# Altium schematic symbol library Rising Clamp System WR-TBL_3.50 mm.SchLib: 34 symbols
Pins are listed as number, name and electrical type; pins without a type are passive.

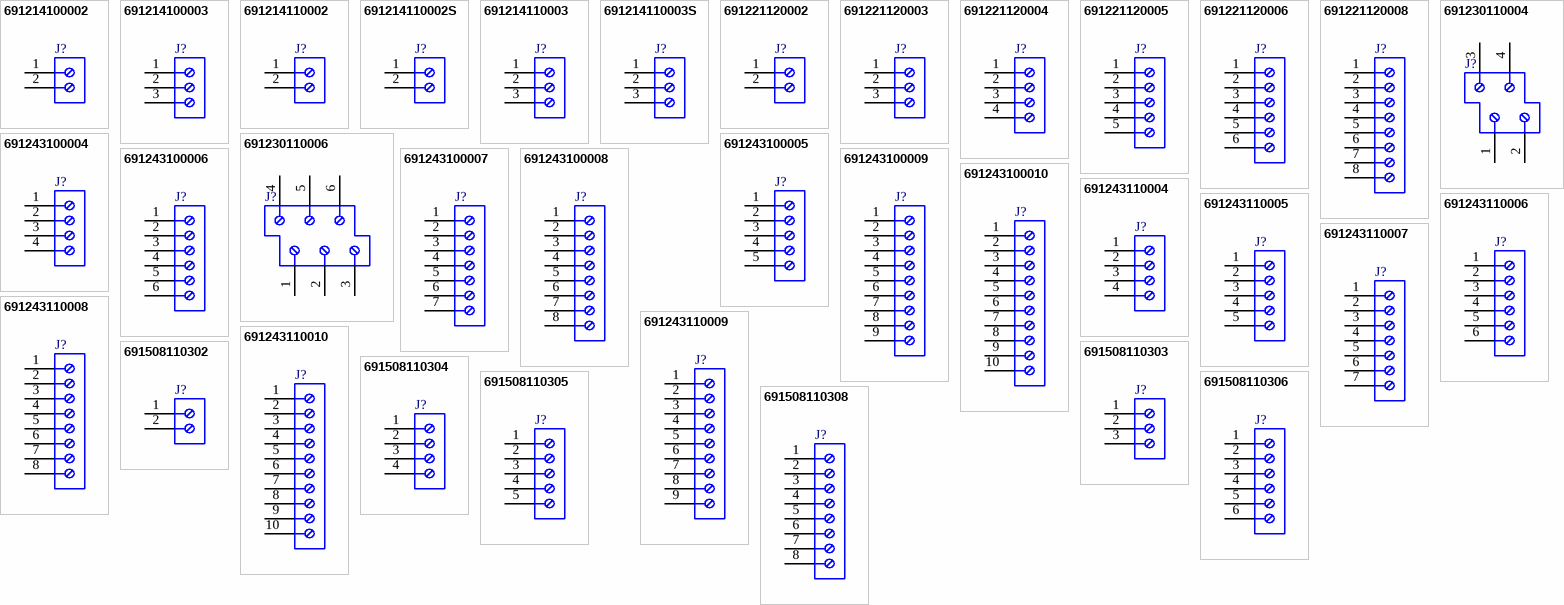
[diagram p0: symbols 691214100002 to 691508110308]

## 691214100002
designator J?
Serie 2141 - 3.50 mm Vertical Entry Modular with Rising Cage Clamp WR-TBL, 2 pin; Part Number: 691214100002; Pin Number: 2; Pitch: 3.50 mm; ComponentLink1Description: Manufacturer; ComponentLink1URL: http://www.we-online.de; ComponentLink2Description: Datasheet; ComponentLink2URL: http://katalog.we-online.de/em/datasheet/6912141000xx.pdf; Published Date: June 2018; Publisher: Wurth Elektronik; Operating Temperature: -30 to 120 degC; Mounting Technology: THT; Packaging: Box
footprint 691214100002
pins: 1, 2

## 691214100003
designator J?
Serie 2141 - 3.50 mm Vertical Entry Modular with Rising Cage Clamp WR-TBL, 3 pin; Part Number: 691214100003; Pin Number: 3; Pitch: 3.50 mm; ComponentLink1Description: Manufacturer; ComponentLink1URL: http://www.we-online.de; ComponentLink2Description: Datasheet; ComponentLink2URL: http://katalog.we-online.de/em/datasheet/6912141000xx.pdf; Published Date: June 2018; Publisher: Wurth Elektronik; Operating Temperature: -30 to 120 degC; Mounting Technology: THT; Packaging: Box
footprint 691214100003
pins: 1, 2, 3

## 691214110002
designator J?
Serie 2141 - 3.50 mm Horizontal Entry Modular with Rising Cage Clamp WR-TBL, 2 pin; Part Number: 691214110002; Pin Number: 2; Pitch: 3.50 mm; ComponentLink1Description: Manufacturer; ComponentLink1URL: http://www.we-online.de; ComponentLink2Description: Datasheet; ComponentLink2URL: http://katalog.we-online.de/em/datasheet/6912141100xx.pdf; Published Date: June 2018; Publisher: Wurth Elektronik; Operating Temperature: -40 to 105 degC; Mounting Technology: THT; Packaging: Box
footprint 691214110002
pins: 1, 2

## 691214110002S
designator J?
Serie 2141S - 3.50 mm Horizontal Entry Modular with Rising Cage Clamp WR-TBL, 2 pin; Part Number: 691214110002S; Pin Number: 2; Pitch: 3.50 mm; ComponentLink1Description: Manufacturer; ComponentLink1URL: http://www.we-online.de; ComponentLink2Description: Datasheet; ComponentLink2URL: http://katalog.we-online.de/em/datasheet/6912141100XXS.pdf; Published Date: June 2018; Publisher: Wurth Elektronik; Operating Temperature: -30 to 120 degC; Mounting Technology: THT; Packaging: Box
footprint 691214110002S
pins: 1, 2

## 691214110003
designator J?
Serie 2141 - 3.50 mm Horizontal Entry Modular with Rising Cage Clamp WR-TBL, 3 pin; Part Number: 691214110003; Pin Number: 3; Pitch: 3.50 mm; ComponentLink1Description: Manufacturer; ComponentLink1URL: http://www.we-online.de; ComponentLink2Description: Datasheet; ComponentLink2URL: http://katalog.we-online.de/em/datasheet/6912141100xx.pdf; Published Date: June 2018; Publisher: Wurth Elektronik; Operating Temperature: -40 to 105 degC; Mounting Technology: THT; Packaging: Box
footprint 691214110003
pins: 1, 2, 3

## 691214110003S
designator J?
Serie 2141S - 3.50 mm Horizontal Entry Modular with Rising Cage Clamp WR-TBL, 3 pin; Part Number: 691214110003S; Pin Number: 3; Pitch: 3.50 mm; ComponentLink1Description: Manufacturer; ComponentLink1URL: http://www.we-online.de; ComponentLink2Description: Datasheet; ComponentLink2URL: http://katalog.we-online.de/em/datasheet/6912141100XXS.pdf; Published Date: June 2018; Publisher: Wurth Elektronik; Operating Temperature: -30 to 120 degC; Mounting Technology: THT; Packaging: Box
footprint 691214110003S
pins: 1, 2, 3

## 691221120002
designator J?
Serie 2211 - 3.50 mm 55deg Entry with Rising Cage Clamp WR-TBL, 2 pin; Part Number: 691221120002; Pin Number: 2; Pitch: 3.50 mm; ComponentLink1Description: Manufacturer; ComponentLink1URL: http://www.we-online.de; ComponentLink2Description: Datasheet; ComponentLink2URL: http://katalog.we-online.de/em/datasheet/691221120002.pdf; Published Date: June 2018; Publisher: Wurth Elektronik; Operating Temperature: -40 to 105 degC; Mounting Technology: THT; Packaging: Box
footprint 691221120002
pins: 1, 2

## 691221120003
designator J?
Serie 2211 - 3.50 mm 55deg Entry with Rising Cage Clamp WR-TBL, 3 pin; Part Number: 691221120003; Pin Number: 3; Pitch: 3.50 mm; ComponentLink1Description: Manufacturer; ComponentLink1URL: http://www.we-online.de; ComponentLink2Description: Datasheet; ComponentLink2URL: http://katalog.we-online.de/em/datasheet/691221120003.pdf; Published Date: June 2018; Publisher: Wurth Elektronik; Operating Temperature: -40 to 105 degC; Mounting Technology: THT; Packaging: Box
footprint 691221120003
pins: 1, 2, 3

## 691221120004
designator J?
Serie 2211 - 3.50 mm 55deg Entry with Rising Cage Clamp WR-TBL, 4 pin; Part Number: 691221120004; Pin Number: 4; Pitch: 3.50 mm; ComponentLink1Description: Manufacturer; ComponentLink1URL: http://www.we-online.de; ComponentLink2Description: Datasheet; ComponentLink2URL: http://katalog.we-online.de/em/datasheet/691221120004.pdf; Published Date: June 2018; Publisher: Wurth Elektronik; Operating Temperature: -40 to 105 degC; Mounting Technology: THT; Packaging: Box
footprint 691221120004
pins: 1, 2, 3, 4

## 691221120005
designator J?
Serie 2211 - 3.50 mm 55deg Entry with Rising Cage Clamp WR-TBL, 5 pin; Part Number: 691221120005; Pin Number: 5; Pitch: 3.50 mm; ComponentLink1Description: Manufacturer; ComponentLink1URL: http://www.we-online.de; ComponentLink2Description: Datasheet; ComponentLink2URL: http://katalog.we-online.de/em/datasheet/691221120005.pdf; Published Date: June 2018; Publisher: Wurth Elektronik; Operating Temperature: -40 to 105 degC; Mounting Technology: THT; Packaging: Box
footprint 691221120005
pins: 1, 2, 3, 4, 5

## 691221120006
designator J?
Serie 2211 - 3.50 mm 55deg Entry with Rising Cage Clamp WR-TBL, 6 pin; Part Number: 691221120006; Pin Number: 6; Pitch: 3.50 mm; ComponentLink1Description: Manufacturer; ComponentLink1URL: http://www.we-online.de; ComponentLink2Description: Datasheet; ComponentLink2URL: http://katalog.we-online.de/em/datasheet/691221120006.pdf; Published Date: June 2018; Publisher: Wurth Elektronik; Operating Temperature: -40 to 105 degC; Mounting Technology: THT; Packaging: Box
footprint 691221120006
pins: 1, 2, 3, 4, 5, 6

## 691221120008
designator J?
Serie 2211 - 3.50 mm 55deg Entry with Rising Cage Clamp WR-TBL, 8 pin; Part Number: 691221120008; Pin Number: 8; Pitch: 3.50 mm; ComponentLink1Description: Manufacturer; ComponentLink1URL: http://www.we-online.de; ComponentLink2Description: Datasheet; ComponentLink2URL: http://katalog.we-online.de/em/datasheet/691221120008.pdf; Published Date: June 2018; Publisher: Wurth Elektronik; Operating Temperature: -40 to 105 degC; Mounting Technology: THT; Packaging: Box
footprint 691221120008
pins: 1, 2, 3, 4, 5, 6, 7, 8

## 691230110004
designator J?
Serie 2301 - 3.50 mm Double Level Horizontal Entry Modular with Rising Cage WR-TBL, 4 pin; Part Number: 691230110004; Pin Number: 4; Pitch: 3.50 mm; ComponentLink1Description: Manufacturer; ComponentLink1URL: http://www.we-online.de; ComponentLink2Description: Datasheet; ComponentLink2URL: http://katalog.we-online.de/em/datasheet/6912301100xx.pdf; Published Date: June 2018; Publisher: Wurth Elektronik; Operating Temperature: -40 to 105 degC; Mounting Technology: THT; Packaging: Box
footprint 691230110004
pins: 1, 2, 3, 4

## 691230110006
designator J?
Serie 2301 - 3.50 mm Double Level Horizontal Entry Modular with Rising Cage WR-TBL, 6 pin; Part Number: 691230110006; Pin Number: 6; Pitch: 3.50 mm; ComponentLink1Description: Manufacturer; ComponentLink1URL: http://www.we-online.de; ComponentLink2Description: Datasheet; ComponentLink2URL: http://katalog.we-online.de/em/datasheet/6912301100xx.pdf; Published Date: June 2018; Publisher: Wurth Elektronik; Operating Temperature: -40 to 105 degC; Mounting Technology: THT; Packaging: Box
footprint 691230110006
pins: 1, 2, 3, 4, 5, 6

## 691243100004
designator J?
Serie 2431- 3.50 mm Vertical Entry with Rising Cage Clamp WR-TBL, 4 pin; Part Number: 691243100004; Pin Number: 4; Pitch: 3.50 mm; ComponentLink1Description: Manufacturer; ComponentLink1URL: http://www.we-online.de; ComponentLink2Description: Datasheet; ComponentLink2URL: http://katalog.we-online.de/em/datasheet/6912431000xx.pdf; Published Date: June 2018; Publisher: Wurth Elektronik; Operating Temperature: -30 to 120 degC; Mounting Technology: THT; Packaging: Box
footprint 691243100004
pins: 1, 2, 3, 4

## 691243100005
designator J?
Serie 2431- 3.50 mm Vertical Entry with Rising Cage Clamp WR-TBL, 5 pin; Part Number: 691243100005; Pin Number: 5; Pitch: 3.50 mm; ComponentLink1Description: Manufacturer; ComponentLink1URL: http://www.we-online.de; ComponentLink2Description: Datasheet; ComponentLink2URL: http://katalog.we-online.de/em/datasheet/6912431000xx.pdf; Published Date: June 2018; Publisher: Wurth Elektronik; Operating Temperature: -30 to 120 degC; Mounting Technology: THT; Packaging: Box
footprint 691243100005
pins: 1, 2, 3, 4, 5

## 691243100006
designator J?
Serie 2431- 3.50 mm Vertical Entry with Rising Cage Clamp WR-TBL, 6 pin; Part Number: 691243100006; Pin Number: 6; Pitch: 3.50 mm; ComponentLink1Description: Manufacturer; ComponentLink1URL: http://www.we-online.de; ComponentLink2Description: Datasheet; ComponentLink2URL: http://katalog.we-online.de/em/datasheet/6912431000xx.pdf; Published Date: June 2018; Publisher: Wurth Elektronik; Operating Temperature: -30 to 120 degC; Mounting Technology: THT; Packaging: Box
footprint 691243100006
pins: 1, 2, 3, 4, 5, 6

## 691243100007
designator J?
Serie 2431- 3.50 mm Vertical Entry with Rising Cage Clamp WR-TBL, 7 pin; Part Number: 691243100007; Pin Number: 7; Pitch: 3.50 mm; ComponentLink1Description: Manufacturer; ComponentLink1URL: http://www.we-online.de; ComponentLink2Description: Datasheet; ComponentLink2URL: http://katalog.we-online.de/em/datasheet/6912431000xx.pdf; Published Date: June 2018; Publisher: Wurth Elektronik; Operating Temperature: -30 to 120 degC; Mounting Technology: THT; Packaging: Box
footprint 691243100007
pins: 1, 2, 3, 4, 5, 6, 7

## 691243100008
designator J?
Serie 2431- 3.50 mm Vertical Entry with Rising Cage Clamp WR-TBL, 8 pin; Part Number: 691243100008; Pin Number: 8; Pitch: 3.50 mm; ComponentLink1Description: Manufacturer; ComponentLink1URL: http://www.we-online.de; ComponentLink2Description: Datasheet; ComponentLink2URL: http://katalog.we-online.de/em/datasheet/6912431000xx.pdf; Published Date: June 2018; Publisher: Wurth Elektronik; Operating Temperature: -30 to 120 degC; Mounting Technology: THT; Packaging: Box
footprint 691243100008
pins: 1, 2, 3, 4, 5, 6, 7, 8

## 691243100009
designator J?
Serie 2431- 3.50 mm Vertical Entry with Rising Cage Clamp WR-TBL, 9 pin; Part Number: 691243100009; Pin Number: 9; Pitch: 3.50 mm; ComponentLink1Description: Manufacturer; ComponentLink1URL: http://www.we-online.de; ComponentLink2Description: Datasheet; ComponentLink2URL: http://katalog.we-online.de/em/datasheet/6912431000xx.pdf; Published Date: June 2018; Publisher: Wurth Elektronik; Operating Temperature: -30 to 120 degC; Mounting Technology: THT; Packaging: Box
footprint 691243100009
pins: 1, 2, 3, 4, 5, 6, 7, 8, 9

## 691243100010
designator J?
Serie 2431- 3.50 mm Vertical Entry with Rising Cage Clamp WR-TBL, 10 pin; Part Number: 691243100010; Pin Number: 10; Pitch: 3.50 mm; ComponentLink1Description: Manufacturer; ComponentLink1URL: http://www.we-online.de; ComponentLink2Description: Datasheet; ComponentLink2URL: http://katalog.we-online.de/em/datasheet/6912431000xx.pdf; Published Date: June 2018; Publisher: Wurth Elektronik; Operating Temperature: -30 to 120 degC; Mounting Technology: THT; Packaging: Box
footprint 691243100010
pins: 1, 2, 3, 4, 5, 6, 7, 8, 9, 10

## 691243110004
designator J?
Serie 2431 - 3.50 mm Horizontal Cable Entry with Rising Cage Clamp WR-TBL, 4 pin; Part Number: 691243110004; Pin Number: 4; Pitch: 3.50 mm; ComponentLink1Description: Manufacturer; ComponentLink1URL: http://www.we-online.de; ComponentLink2Description: Datasheet; ComponentLink2URL: http://katalog.we-online.de/em/datasheet/6912431100XX.pdf; Published Date: June 2018; Publisher: Wurth Elektronik; Operating Temperature: -30 to 120 degC; Mounting Technology: THT; Packaging: Box
footprint 691243110004
pins: 1, 2, 3, 4

## 691243110005
designator J?
Serie 2431 - 3.50 mm Horizontal Cable Entry with Rising Cage Clamp WR-TBL, 5 pin; Part Number: 691243110005; Pin Number: 5; Pitch: 3.50 mm; ComponentLink1Description: Manufacturer; ComponentLink1URL: http://www.we-online.de; ComponentLink2Description: Datasheet; ComponentLink2URL: http://katalog.we-online.de/em/datasheet/6912431100XX.pdf; Published Date: June 2018; Publisher: Wurth Elektronik; Operating Temperature: -30 to 120 degC; Mounting Technology: THT; Packaging: Box
footprint 691243110005
pins: 1, 2, 3, 4, 5

## 691243110006
designator J?
Serie 2431 - 3.50 mm Horizontal Cable Entry with Rising Cage Clamp WR-TBL, 6 pin; Part Number: 691243110006; Pin Number: 6; Pitch: 3.50 mm; ComponentLink1Description: Manufacturer; ComponentLink1URL: http://www.we-online.de; ComponentLink2Description: Datasheet; ComponentLink2URL: http://katalog.we-online.de/em/datasheet/6912431100XX.pdf; Published Date: June 2018; Publisher: Wurth Elektronik; Operating Temperature: -30 to 120 degC; Mounting Technology: THT; Packaging: Box
footprint 691243110006
pins: 1, 2, 3, 4, 5, 6

## 691243110007
designator J?
Serie 2431 - 3.50 mm Horizontal Cable Entry with Rising Cage Clamp WR-TBL, 7 pin; Part Number: 691243110007; Pin Number: 7; Pitch: 3.50 mm; ComponentLink1Description: Manufacturer; ComponentLink1URL: http://www.we-online.de; ComponentLink2Description: Datasheet; ComponentLink2URL: http://katalog.we-online.de/em/datasheet/6912431100XX.pdf; Published Date: June 2018; Publisher: Wurth Elektronik; Operating Temperature: -30 to 120 degC; Mounting Technology: THT; Packaging: Box
footprint 691243110007
pins: 1, 2, 3, 4, 5, 6, 7

## 691243110008
designator J?
Serie 2431 - 3.50 mm Horizontal Cable Entry with Rising Cage Clamp WR-TBL, 8 pin; Part Number: 691243110008; Pin Number: 8; Pitch: 3.50 mm; ComponentLink1Description: Manufacturer; ComponentLink1URL: http://www.we-online.de; ComponentLink2Description: Datasheet; ComponentLink2URL: http://katalog.we-online.de/em/datasheet/6912431100XX.pdf; Published Date: June 2018; Publisher: Wurth Elektronik; Operating Temperature: -30 to 120 degC; Mounting Technology: THT; Packaging: Box
footprint 691243110008
pins: 1, 2, 3, 4, 5, 6, 7, 8

## 691243110009
designator J?
Serie 2431 - 3.50 mm Horizontal Cable Entry with Rising Cage Clamp WR-TBL, 9 pin; Part Number: 691243110009; Pin Number: 9; Pitch: 3.50 mm; ComponentLink1Description: Manufacturer; ComponentLink1URL: http://www.we-online.de; ComponentLink2Description: Datasheet; ComponentLink2URL: http://katalog.we-online.de/em/datasheet/6912431100XX.pdf; Published Date: June 2018; Publisher: Wurth Elektronik; Operating Temperature: -30 to 120 degC; Mounting Technology: THT; Packaging: Box
footprint 691243110009
pins: 1, 2, 3, 4, 5, 6, 7, 8, 9

## 691243110010
designator J?
Serie 2431 - 3.50 mm Horizontal Cable Entry with Rising Cage Clamp WR-TBL, 10 pin; Part Number: 691243110010; Pin Number: 10; Pitch: 3.50 mm; ComponentLink1Description: Manufacturer; ComponentLink1URL: http://www.we-online.de; ComponentLink2Description: Datasheet; ComponentLink2URL: http://katalog.we-online.de/em/datasheet/6912431100XX.pdf; Published Date: June 2018; Publisher: Wurth Elektronik; Operating Temperature: -30 to 120 degC; Mounting Technology: THT; Packaging: Box
footprint 691243110010
pins: 1, 2, 3, 4, 5, 6, 7, 8, 9, 10

## 691508110302
designator J?
Serie 5081 - 3.50 mm Horizontal Entry SMT with Rising Cage Clamp WR-TBL, 2 pin; Part Number: 691508110302; Pin Number: 2; Pitch: 3.50 mm; ComponentLink1Description: Manufacturer; ComponentLink1URL: http://www.we-online.de; ComponentLink2Description: Datasheet; ComponentLink2URL: http://katalog.we-online.de/em/datasheet/6915081103xx.pdf; Published Date: June 2018; Publisher: Wurth Elektronik; Operating Temperature: -40 to 130 degC; Mounting Technology: SMT; Packaging: Tape and Reel with Cap
footprint 691508110302
pins: 1, 2

## 691508110303
designator J?
Serie 5081 - 3.50 mm Horizontal Entry SMT with Rising Cage Clamp WR-TBL, 3 pin; Part Number: 691508110303; Pin Number: 3; Pitch: 3.50 mm; ComponentLink1Description: Manufacturer; ComponentLink1URL: http://www.we-online.de; ComponentLink2Description: Datasheet; ComponentLink2URL: http://katalog.we-online.de/em/datasheet/6915081103xx.pdf; Published Date: June 2018; Publisher: Wurth Elektronik; Operating Temperature: -40 to 130 degC; Mounting Technology: SMT; Packaging: Tape and Reel with Cap
footprint 691508110303
pins: 1, 2, 3

## 691508110304
designator J?
Serie 5081 - 3.50 mm Horizontal Entry SMT with Rising Cage Clamp WR-TBL, 4 pin; Part Number: 691508110304; Pin Number: 4; Pitch: 3.50 mm; ComponentLink1Description: Manufacturer; ComponentLink1URL: http://www.we-online.de; ComponentLink2Description: Datasheet; ComponentLink2URL: http://katalog.we-online.de/em/datasheet/6915081103xx.pdf; Published Date: June 2018; Publisher: Wurth Elektronik; Operating Temperature: -40 to 130 degC; Mounting Technology: SMT; Packaging: Tape and Reel with Cap
footprint 691508110304
pins: 1, 2, 3, 4

## 691508110305
designator J?
Serie 5081 - 3.50 mm Horizontal Entry SMT with Rising Cage Clamp WR-TBL, 5 pin; Part Number: 691508110305; Pin Number: 5; Pitch: 3.50 mm; ComponentLink1Description: Manufacturer; ComponentLink1URL: http://www.we-online.de; ComponentLink2Description: Datasheet; ComponentLink2URL: http://katalog.we-online.de/em/datasheet/6915081103xx.pdf; Published Date: June 2018; Publisher: Wurth Elektronik; Operating Temperature: -40 to 130 degC; Mounting Technology: SMT; Packaging: Tape and Reel with Cap
footprint 691508110305
pins: 1, 2, 3, 4, 5

## 691508110306
designator J?
Serie 5081 - 3.50 mm Horizontal Entry SMT with Rising Cage Clamp WR-TBL, 6 pin; Part Number: 691508110306; Pin Number: 6; Pitch: 3.50 mm; ComponentLink1Description: Manufacturer; ComponentLink1URL: http://www.we-online.de; ComponentLink2Description: Datasheet; ComponentLink2URL: http://katalog.we-online.de/em/datasheet/6915081103xx.pdf; Published Date: June 2018; Publisher: Wurth Elektronik; Operating Temperature: -40 to 130 degC; Mounting Technology: SMT; Packaging: Tape and Reel with Cap
footprint 691508110306
pins: 1, 2, 3, 4, 5, 6

## 691508110308
designator J?
Serie 5081 - 3.50 mm Horizontal Entry SMT with Rising Cage Clamp WR-TBL, 8 pin; Part Number: 691508110308; Pin Number: 8; Pitch: 3.50 mm; ComponentLink1Description: Manufacturer; ComponentLink1URL: http://www.we-online.de; ComponentLink2Description: Datasheet; ComponentLink2URL: http://katalog.we-online.de/em/datasheet/6915081103xx.pdf; Published Date: June 2018; Publisher: Wurth Elektronik; Operating Temperature: -40 to 130 degC; Mounting Technology: SMT; Packaging: Tape and Reel with Cap
footprint 691508110308
pins: 1, 2, 3, 4, 5, 6, 7, 8